# Altium integrated library TERMINAL.IntLib: 37 symbols
Pins are listed as number, name and electrical type; pins without a type are passive.

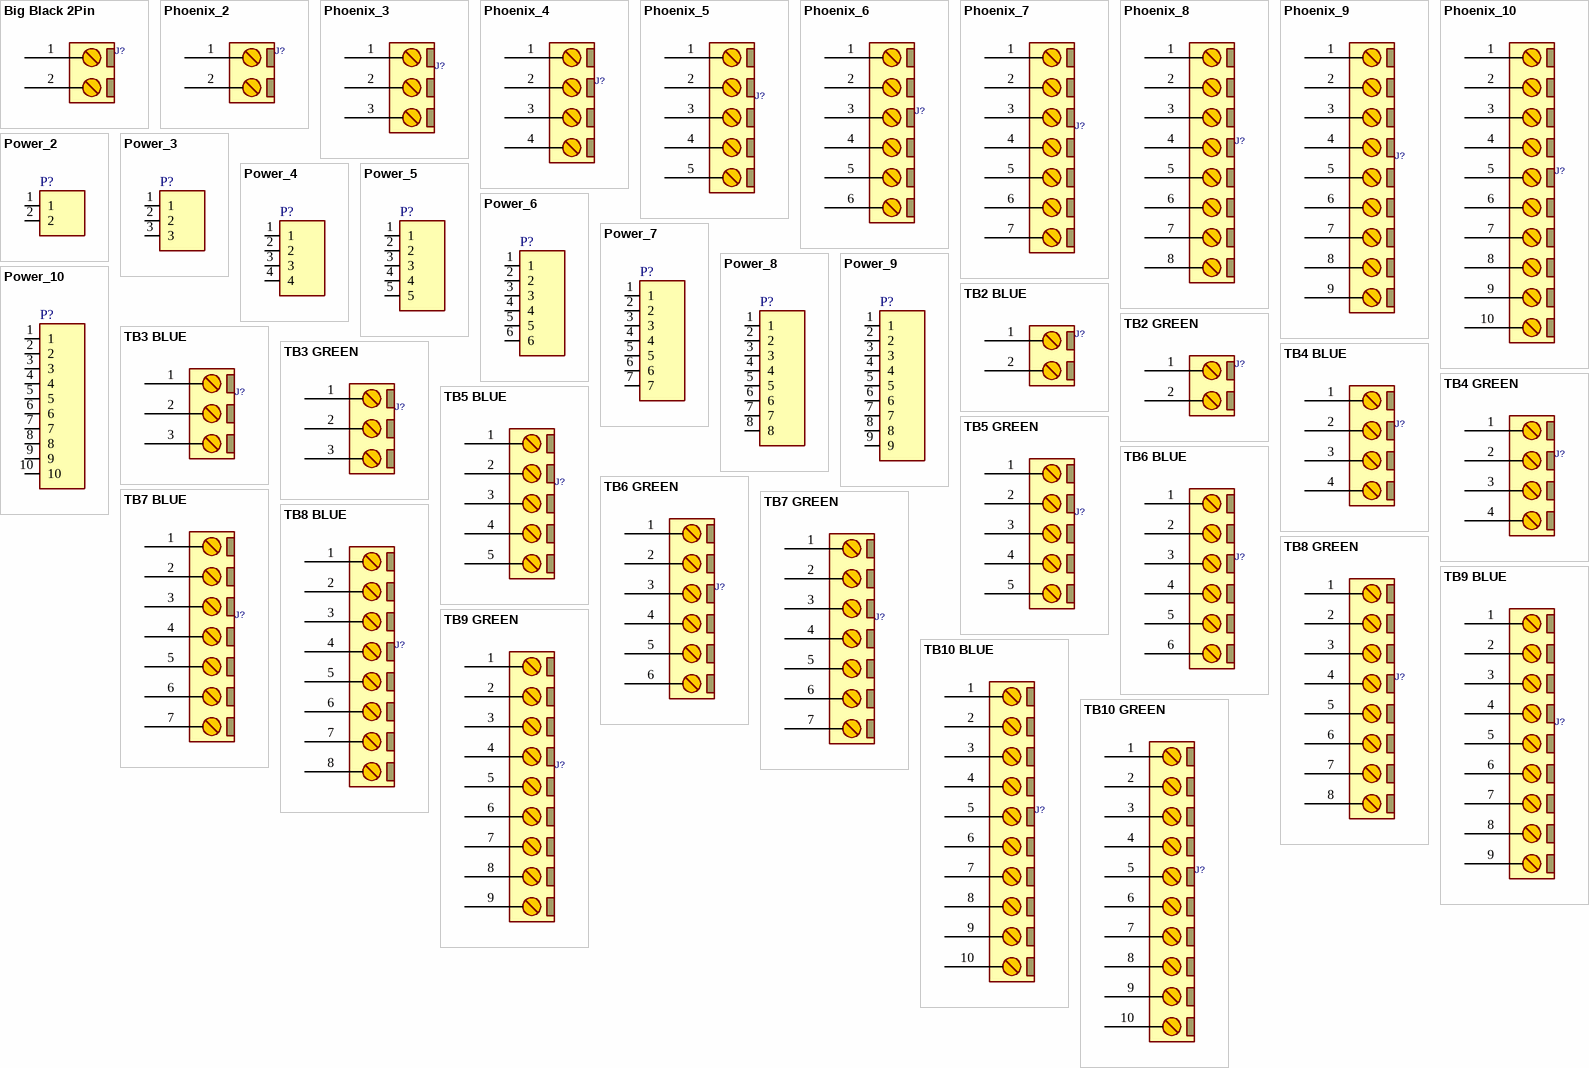
[diagram p0: symbols Big Black 2Pin to TB10 GREEN]

## Big Black 2Pin
designator J?, comment CONN_TB2  (value not drawn)
CONN, PHOENIX MSTB, 5-G, 5.08mm pitch; VALUE: CONN_TB2
footprint P_BIG_2PIN
pins: 1, 2

## Phoenix_2
designator J?, comment CONN_TB2  (value not drawn)
CONN, PHOENIX MSTB, 5-G, 5.08mm pitch; VALUE: CONN_TB2
footprint P_MSTB_2 (PHOENIX MSTB 2, 5-G, 5.08mm pitch, 2pin)
footprint P_MSTBF_2 (PHOENIX MSTB 2, 5-G, 5.08mm pitch, 2pin)
pins: 1, 2

## Phoenix_3
designator J?, comment CONN_TB3  (value not drawn)
CONN, PHOENIX MSTB, 5-G, 5.08mm pitch; VALUE: CONN_TB3
footprint P_MSTB_3 (PHOENIX MSTB 2, 5-G, 5.08mm pitch, 3pin)
footprint P_MSTBF_3 (PHOENIX MSTB 2, 5-G, 5.08mm pitch, 3pin)
pins: 1, 2, 3

## Phoenix_4
designator J?, comment CONN_TB4  (value not drawn)
CONN, PHOENIX MSTB, 5-G, 5.08mm pitch; VALUE: CONN_TB4
footprint P_MSTB_4 (PHOENIX MSTB 2, 5-G, 5.08mm pitch)
footprint P_MSTBF_4 (PHOENIX MSTB 2, 5-G, 5.08mm pitch)
pins: 1, 2, 3, 4

## Phoenix_5
designator J?, comment CONN_TB5  (value not drawn)
CONN, PHOENIX MSTB, 5-G, 5.08mm pitch; VALUE: CONN_TB5
footprint P_MSTB_5 (PHOENIX MSTB 2, 5-G, 5.08mm pitch)
footprint P_MSTBF_5 (PHOENIX MSTB 2, 5-G, 5.08mm pitch)
pins: 1, 2, 3, 4, 5

## Phoenix_6
designator J?, comment CONN_TB6  (value not drawn)
CONN, PHOENIX MSTB, 5-G, 5.08mm pitch; VALUE: CONN_TB6
footprint P_MSTB_6 (PHOENIX MSTB 2, 5-G, 5.08mm pitch)
footprint P_MSTBF_6 (PHOENIX MSTB 2, 5-G, 5.08mm pitch)
pins: 1, 2, 3, 4, 5, 6

## Phoenix_7
designator J?, comment CONN_TB7  (value not drawn)
CONN, PHOENIX MSTB, 5-G, 5.08mm pitch; VALUE: CONN_TB7
footprint P_MSTB_7 (PHOENIX MSTB 2, 5-G, 5.08mm pitch)
footprint P_MSTBF_7 (PHOENIX MSTB 2, 5-G, 5.08mm pitch)
pins: 1, 2, 3, 4, 5, 6, 7

## Phoenix_8
designator J?, comment CONN_TB8  (value not drawn)
CONN, PHOENIX MSTB, 5-G, 5.08mm pitch; VALUE: CONN_TB8
footprint P_MSTB_8 (PHOENIX MSTB 2, 5-G, 5.08mm pitch)
footprint P_MSTBF_8 (PHOENIX MSTB 2, 5-G, 5.08mm pitch)
pins: 1, 2, 3, 4, 5, 6, 7, 8

## Phoenix_9
designator J?, comment CONN_TB9  (value not drawn)
CONN, PHOENIX MSTB, 5-G, 5.08mm pitch; VALUE: CONN_TB9
footprint P_MSTB_9 (PHOENIX MSTB 2, 5-G, 5.08mm pitch)
footprint P_MSTBF_9 (PHOENIX MSTB 2, 5-G, 5.08mm pitch)
pins: 1, 2, 3, 4, 5, 6, 7, 8, 9

## Phoenix_10
designator J?, comment CONN_TB10  (value not drawn)
CONN, PHOENIX MSTB, 5-G, 5.08mm pitch; VALUE: CONN_TB10
footprint P_MSTB_10 (PHOENIX MSTB 2, 5-G, 5.08mm pitch)
footprint P_MSTBF_10 (PHOENIX MSTB 2, 5-G, 5.08mm pitch)
pins: 1, 2, 3, 4, 5, 6, 7, 8, 9, 10

## Power_2
designator P?, comment CONN_PWL_2  (value not drawn)
Power Terminal 2pin,Header, 2-Pin; VALUE: CONN_PWL_2
footprint P_PWL_2 (Connector; Header; 2 Position)
pins: 1, 2

## Power_3
designator P?, comment CONN_PWL_3  (value not drawn)
Power Terminal 3pin,Header, 3-Pin; VALUE: CONN_PWL_3
footprint P_PWL_3 (Connector; Header; 3 Position)
pins: 1, 2, 3

## Power_4
designator P?, comment CONN_PWL_4  (value not drawn)
Power Terminal 4pin,Header, 4-Pin; VALUE: CONN_PWL_4
footprint P_PWL_4 (Connector; Header; 4 Position)
pins: 1, 2, 3, 4

## Power_5
designator P?, comment CONN_PWL_5  (value not drawn)
Power Terminal 5pin,Header, 5-Pin; VALUE: CONN_PWL_5
footprint P_PWL_5 (Connector; Header; 5 Position)
pins: 1, 2, 3, 4, 5

## Power_6
designator P?, comment CONN_PWL_6  (value not drawn)
Power Terminal 6pin,Header, 6-Pin; VALUE: CONN_PWL_6
footprint P_PWL_6 (Connector; Header; 6 Position)
pins: 1, 2, 3, 4, 5, 6

## Power_7
designator P?, comment CONN_PWL_7  (value not drawn)
Power Terminal 7pin,Header, 7-Pin; VALUE: CONN_PWL_7
footprint P_PWL_7 (Connector; Header; 7 Position)
pins: 1, 2, 3, 4, 5, 6, 7

## Power_8
designator P?, comment CONN_PWL_8  (value not drawn)
Power Terminal 8pin,Header, 8-Pin; VALUE: CONN_PWL_8
footprint P_PWL_8 (Connector; Header; 8 Position)
pins: 1, 2, 3, 4, 5, 6, 7, 8

## Power_9
designator P?, comment CONN_PWL_9  (value not drawn)
Power Terminal 9pin,Header, 9-Pin; VALUE: CONN_PWL_9
footprint P_PWL_9 (Connector; Header; 9 Position)
pins: 1, 2, 3, 4, 5, 6, 7, 8, 9

## Power_10
designator P?, comment CONN_PWL_10  (value not drawn)
Power Terminal 10pin,Header, 10-Pin; VALUE: CONN_PWL_10
footprint P_PWL_10 (Connector; Header; 10 Position)
pins: 1, 2, 3, 4, 5, 6, 7, 8, 9, 10

## TB2 BLUE
designator J?, comment CONN_TB2  (value not drawn)
CONN, TERMINAL BLOCK, 5.08mm pitch; VALUE: CONN_TB2
footprint P_TBB_2 (Terminal Block Blue)
pins: 1, 2

## TB2 GREEN
designator J?, comment CONN_TB2  (value not drawn)
CONN, TERMINAL BLOCK, 5.08mm pitch; VALUE: CONN_TB2
footprint P_TBG_2 (Terminal Block Green)
pins: 1, 2

## TB3 BLUE
designator J?, comment CONN_TB3  (value not drawn)
CONN, TERMINAL BLOCK, 5.08mm pitch; VALUE: CONN_TB3
footprint P_TBB_3 (Terminal Block Blue)
pins: 1, 2, 3

## TB3 GREEN
designator J?, comment CONN_TB3  (value not drawn)
CONN, TERMINAL BLOCK, 5.08mm pitch; VALUE: CONN_TB3
footprint P_TBG_3 (Terminal Block Green)
pins: 1, 2, 3

## TB4 BLUE
designator J?, comment CONN_TB4  (value not drawn)
CONN, TERMINAL BLOCK, 5.08mm pitch; VALUE: CONN_TB4
footprint P_TBB_4 (Terminal Block Blue)
pins: 1, 2, 3, 4

## TB4 GREEN
designator J?, comment CONN_TB4  (value not drawn)
CONN, TERMINAL BLOCK, 5.08mm pitch; VALUE: CONN_TB4
footprint P_TBG_4 (Terminal Block Green)
pins: 1, 2, 3, 4

## TB5 BLUE
designator J?, comment CONN_TB5  (value not drawn)
CONN, TERMINAL BLOCK, 5.08mm pitch; VALUE: CONN_TB5
footprint P_TBB_5 (Terminal Block Blue)
pins: 1, 2, 3, 4, 5

## TB5 GREEN
designator J?, comment CONN_TB5  (value not drawn)
CONN, TERMINAL BLOCK, 5.08mm pitch; VALUE: CONN_TB5
footprint P_TBG_5 (Terminal Block Green)
pins: 1, 2, 3, 4, 5

## TB6 BLUE
designator J?, comment CONN_TB6  (value not drawn)
CONN, TERMINAL BLOCK, 5.08mm pitch; VALUE: CONN_TB6
footprint P_TBB_6 (Terminal Block Blue)
pins: 1, 2, 3, 4, 5, 6

## TB6 GREEN
designator J?, comment CONN_TB6  (value not drawn)
CONN, TERMINAL BLOCK, 5.08mm pitch; VALUE: CONN_TB6
footprint P_TBG_6 (Terminal Block Green)
pins: 1, 2, 3, 4, 5, 6

## TB7 BLUE
designator J?, comment CONN_TB7  (value not drawn)
CONN, TERMINAL BLOCK, 5.08mm pitch; VALUE: CONN_TB7
footprint P_TBB_7 (Terminal Block Blue)
pins: 1, 2, 3, 4, 5, 6, 7

## TB7 GREEN
designator J?, comment CONN_TB7  (value not drawn)
CONN, TERMINAL BLOCK, 5.08mm pitch; VALUE: CONN_TB7
footprint P_TBG_7 (Terminal Block Green)
pins: 1, 2, 3, 4, 5, 6, 7

## TB8 BLUE
designator J?, comment CONN_TB8  (value not drawn)
CONN, TERMINAL BLOCK, 5.08mm pitch; VALUE: CONN_TB8
footprint P_TBB_8 (Terminal Block Blue)
pins: 1, 2, 3, 4, 5, 6, 7, 8

## TB8 GREEN
designator J?, comment CONN_TB8  (value not drawn)
CONN, TERMINAL BLOCK, 5.08mm pitch; VALUE: CONN_TB8
footprint P_TBG_8 (Terminal Block Green)
pins: 1, 2, 3, 4, 5, 6, 7, 8

## TB9 BLUE
designator J?, comment CONN_TB9  (value not drawn)
CONN, TERMINAL BLOCK, 5.08mm pitch; VALUE: CONN_TB9
footprint P_TBB_9 (Terminal Block Blue)
pins: 1, 2, 3, 4, 5, 6, 7, 8, 9

## TB9 GREEN
designator J?, comment CONN_TB9  (value not drawn)
CONN, TERMINAL BLOCK, 5.08mm pitch; VALUE: CONN_TB9
footprint P_TBG_9 (Terminal Block Green)
pins: 1, 2, 3, 4, 5, 6, 7, 8, 9

## TB10 BLUE
designator J?, comment CONN_TB10  (value not drawn)
CONN, TERMINAL BLOCK, 5.08mm pitch; VALUE: CONN_TB10
footprint P_TBB_10 (Terminal Block Blue)
pins: 1, 2, 3, 4, 5, 6, 7, 8, 9, 10

## TB10 GREEN
designator J?, comment CONN_TB10  (value not drawn)
CONN, TERMINAL BLOCK, 5.08mm pitch; VALUE: CONN_TB10
footprint P_TBG_10 (Terminal Block Green)
pins: 1, 2, 3, 4, 5, 6, 7, 8, 9, 10